# Altium integrated library Texas Instruments Power Management PWM Controller.IntLib: 1227 symbols (part 13 of 49)
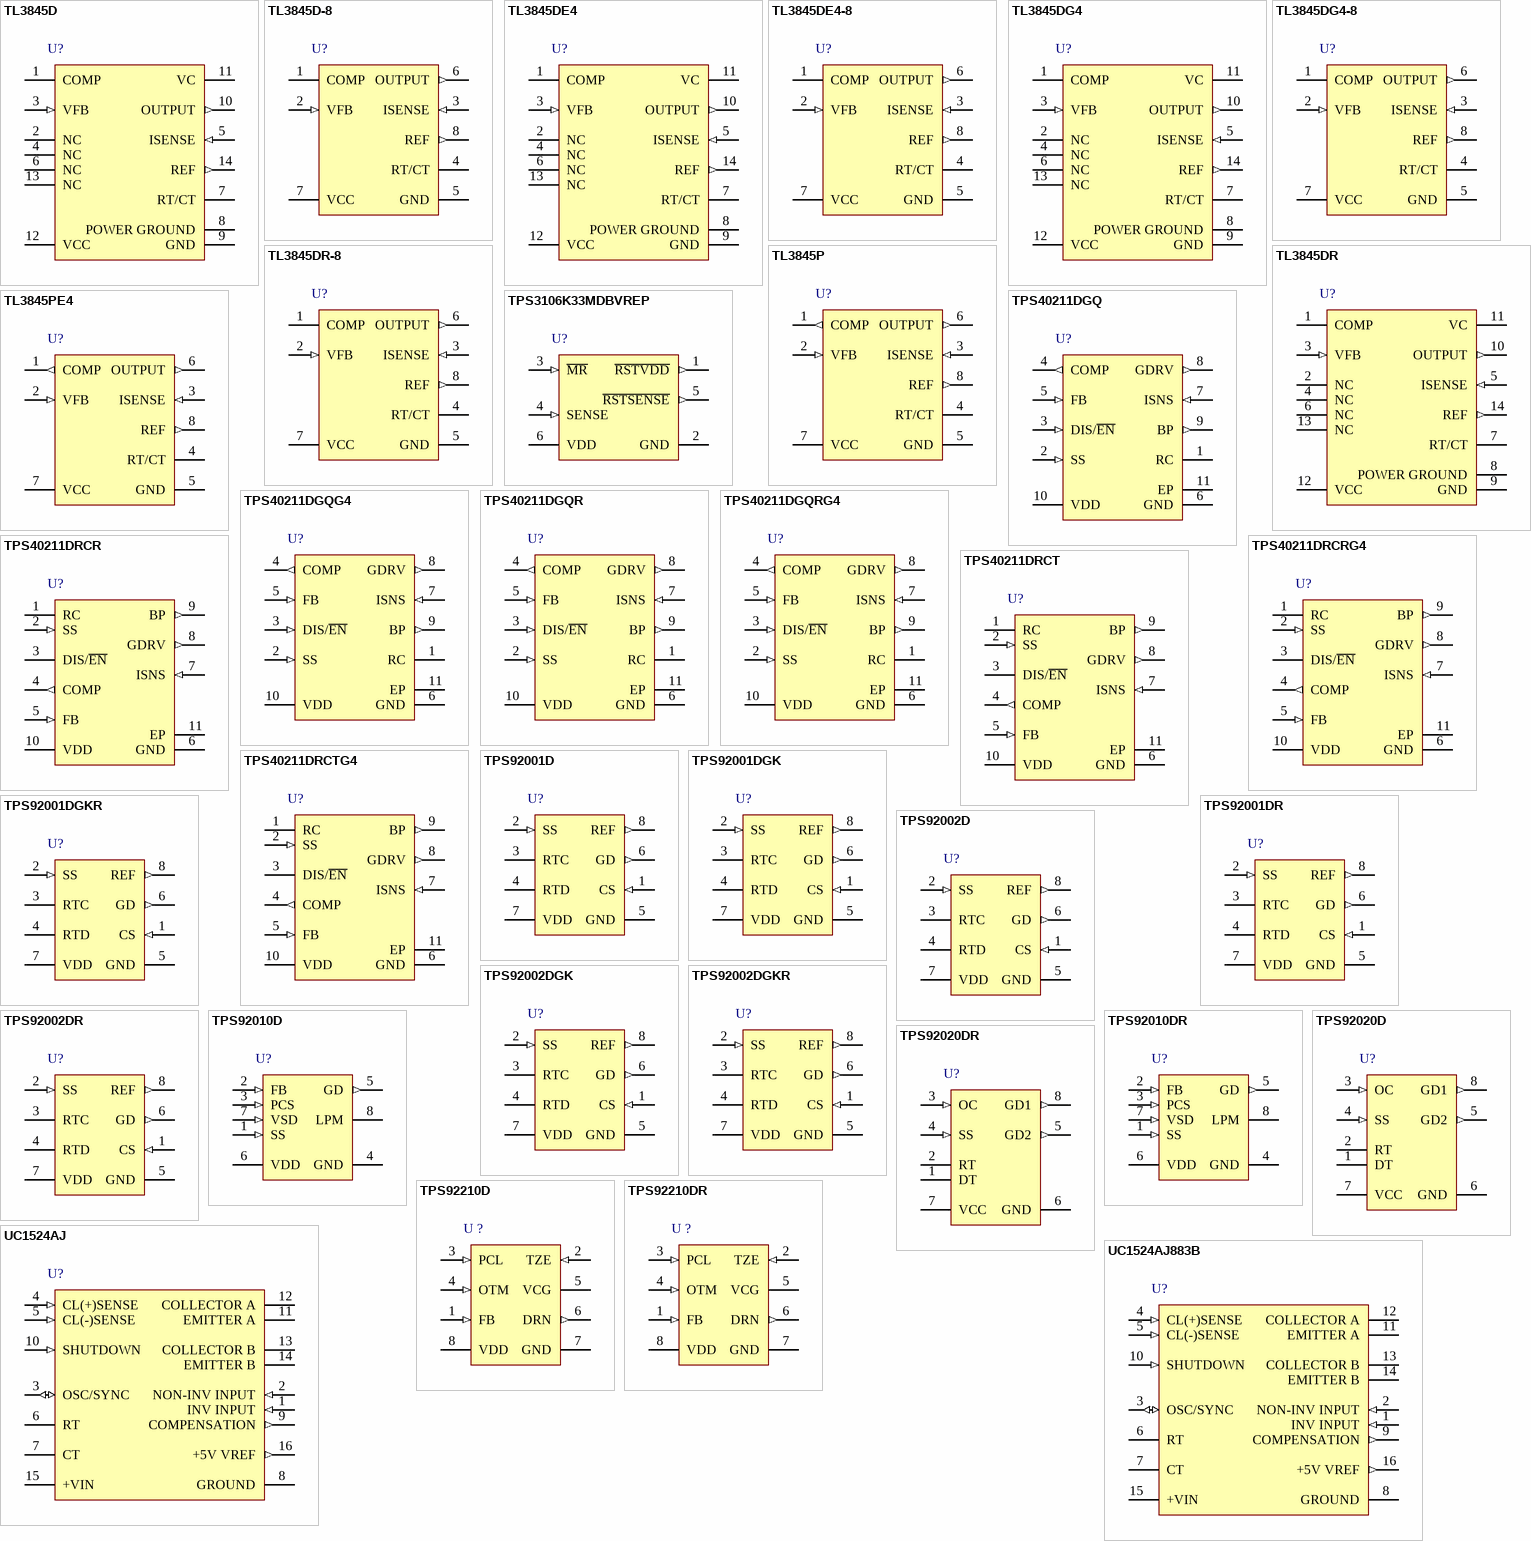
[diagram p55: symbols TL3845D to UC1524AJ883B]

## TPS92210DR
designator U ?
Natural PFC LED Lighting Driver Controller with Current Mode Control, -40 to +125 degC, 8-pin SOIC (D), Green (RoHS & no Sb/Br); PartNumber: TPS92210DR; Manufacturer: Texas Instruments; Frequency(Max)(kHz): 130; Rating: Catalog; SubFamily: PWM Controller; Topology: Flyback; DatasheetVersion: SLUS989A; PackageVersion: revM, Jun-2011; PackageReference: D8; PackageDescription: 8-Pin Plastic Small Outline Integrated Circuit, 4.9 x 3.9 mm, Pitch 1.27 mm Pitch; Supplier 1: Digi-Key; Supplier Part Number 1: 296-25782-2-ND; Supplier 2: Digi-Key; Supplier Part Number 2: 296-25782-1-ND; Supplier 3: Digi-Key; Supplier Part Number 3: 296-25782-6-ND; Supplier 4: Newark; Supplier Part Number 4: 69R0459; Supplier 5: Mouser; Supplier Part Number 5: 595-TPS92210DR; Control Method: Current; Eco-Plan: Green (RoHS & no Sb/Br); UVLO Thresholds On/Off(V): 10.2/8; Mounting Technology: Surface Mount; Code_JEDEC: MS-012AA; ComponentLink1Description: Datasheet; ComponentLink1URL: http://www.ti.com/general/docs/lit/getliterature.tsp?genericPartNumber=TPS92210&fileType=pdf
footprint D8_N (SOIC, 8-Leads, Body 4.9x3.9mm, Pitch 1.27mm, IPC Medium Density)
footprint D8_L (SOIC, 8-Leads, Body 4.9x3.9mm, Pitch 1.27mm, IPC High Density)
footprint D8_M (SOIC, 8-Leads, Body 4.9x3.9mm, Pitch 1.27mm, IPC Low Density)
pins: 1 FB (in) "The FB pin is regulated at 0.7 V and only detects current input (FB current,IFB) which commands the operating mode of TPS92210. For peak-current mode control, this pin is connected to the emitter of the feedback opto coupler.(See Datasheet)", 2 TZE (in) "A resistive divider between the primary-side auxiliary winding and this pin is used to detect when the transformer is demagnetized resulting in transformer zero energy. The ratio of the resistive divider at this pin can also (See Datasheet)", 3 PCL (in) "The PCL pin programs the peak primary inductor current that is reached each switching cycle. The primary current is sensed with the RDS(on) of the internal MOSFET and is programmed by setting a threshold by connecting a low (See Datasheet)", 4 OTM (in) "the OTM pin is internally regulated at 3 V and used to program the on-time of the cascode (flyback) switch by connecting a resistor (ROTM) from this pin to the quiet return of GND. The collector of the opto-coupler is (See Datasheet)", 5 VCG "The VCG pin provides the bias voltage for the gate of the cascode MOSFET. Place a 0.1-µF ceramic capacitorbetween VCG and GND, as close as possible to the high-voltage MOSFET. This pin also provides start-up biasthrough a (See Datasheet)", 6 DRN (out) "The DRN pin is the drain of the internal low voltage power MOSFET of the TPS92210 and carries the peak primary inductor current, IPEAK(pri). Connect this pin to the source of the external cascode power MOSFET. A schottky (See Datasheet)", 7 GND (power) "This GND pin is the current return terminal for both the analog and power signals in the TPS92210. This terminal carries the full drain current, IDRN, which is equal to the peak primary current, IPEAK(pri), in addition to (See Datasheet)", 8 VDD (power) "VDD is the bias supply pin for the TPS92210. It can be derived from an external source, or an auxiliary winding.Place a 0.1-μF ceramic capacitor between VDD and GND, as close to the device as possible. This pin also enables (See Datasheet)"

## UC1524AJ
designator U?
Advanced Regulating Pulse Width Modulators with Voltage control, 50 % Duty Cycle, -55 to +125 degC, 16-pin CDIP (J); PartNumber: UC1524AJ; Manufacturer: Texas Instruments; Duty Cycle(Max)(%): 50; Eco-Plan: TBD; Frequency(Max)(kHz): 450; Rating: Military; Regulated Outputs(#): 2; SubFamily: PWM Controller; Topology: Boost, Flyback, Forward, Full-Bridge, Half-Bridge, Push-Pull; DatasheetVersion: SLUS181B; PackageVersion: revF, Mar-2003; PackageReference: J16; PackageDescription: 16-Pin, Ceramic Dual In-Line Package, Row Spacing 7.62 mm, Pitch 2.54 mm; Control Method: Voltage; UVLO Thresholds On/Off(V): 7.5/7; Mounting Technology: Through Hole; ComponentLink1Description: Datasheet; ComponentLink1URL: http://www.ti.com/general/docs/lit/getliterature.tsp?genericPartNumber=UC1524A&fileType=pdf
footprint J16 (DIP, 16-Leads, Row Spacing 7.62mm, Pitch 2.54mm, Body 21.3x6.9mm)
pins: 1 INV INPUT (in), 2 NON-INV INPUT (in), 3 OSC/SYNC (io), 4 CL(+)SENSE (in), 5 CL(-)SENSE (in), 6 RT, 7 CT, 8 GROUND (power), 9 COMPENSATION (out), 10 SHUTDOWN (in), 11 EMITTER A, 12 COLLECTOR A, 13 COLLECTOR B, 14 EMITTER B, 15 +VIN (power), 16 +5V VREF (out)

## UC1524AJ883B
designator U?
Advanced Regulating Pulse Width Modulator with Voltage Control, 50 % Duty Cycle, -55 to 125 degC, 16-pin CDIP (J); PartNumber: UC1524AJ883B; Manufacturer: Texas Instruments; Duty Cycle(Max)(%): 50; Eco-Plan: TBD; Frequency(Max)(kHz): 450; Rating: Military; Regulated Outputs(#): 2; SubFamily: PWM Controller; Topology: Boost, Flyback, Forward, Full-Bridge, Half-Bridge, Push-Pull; DatasheetVersion: SLUS181B; PackageVersion: revF, Mar-2003; PackageReference: J16; PackageDescription: 16-Pin, Ceramic Dual In-Line Package, Row Spacing 7.62 mm, Pitch 2.54 mm; Control Method: Voltage; UVLO Thresholds On/Off(V): 7.5/7; Mounting Technology: Through Hole; ComponentLink1Description: Datasheet; ComponentLink1URL: http://www.ti.com/general/docs/lit/getliterature.tsp?genericPartNumber=UC1524A&fileType=pdf
footprint J16 (DIP, 16-Leads, Row Spacing 7.62mm, Pitch 2.54mm, Body 21.3x6.9mm)
pins: 1 INV INPUT (in), 2 NON-INV INPUT (in), 3 OSC/SYNC (io), 4 CL(+)SENSE (in), 5 CL(-)SENSE (in), 6 RT, 7 CT, 8 GROUND (power), 9 COMPENSATION (out), 10 SHUTDOWN (in), 11 EMITTER A, 12 COLLECTOR A, 13 COLLECTOR B, 14 EMITTER B, 15 +VIN (power), 16 +5V VREF (out)

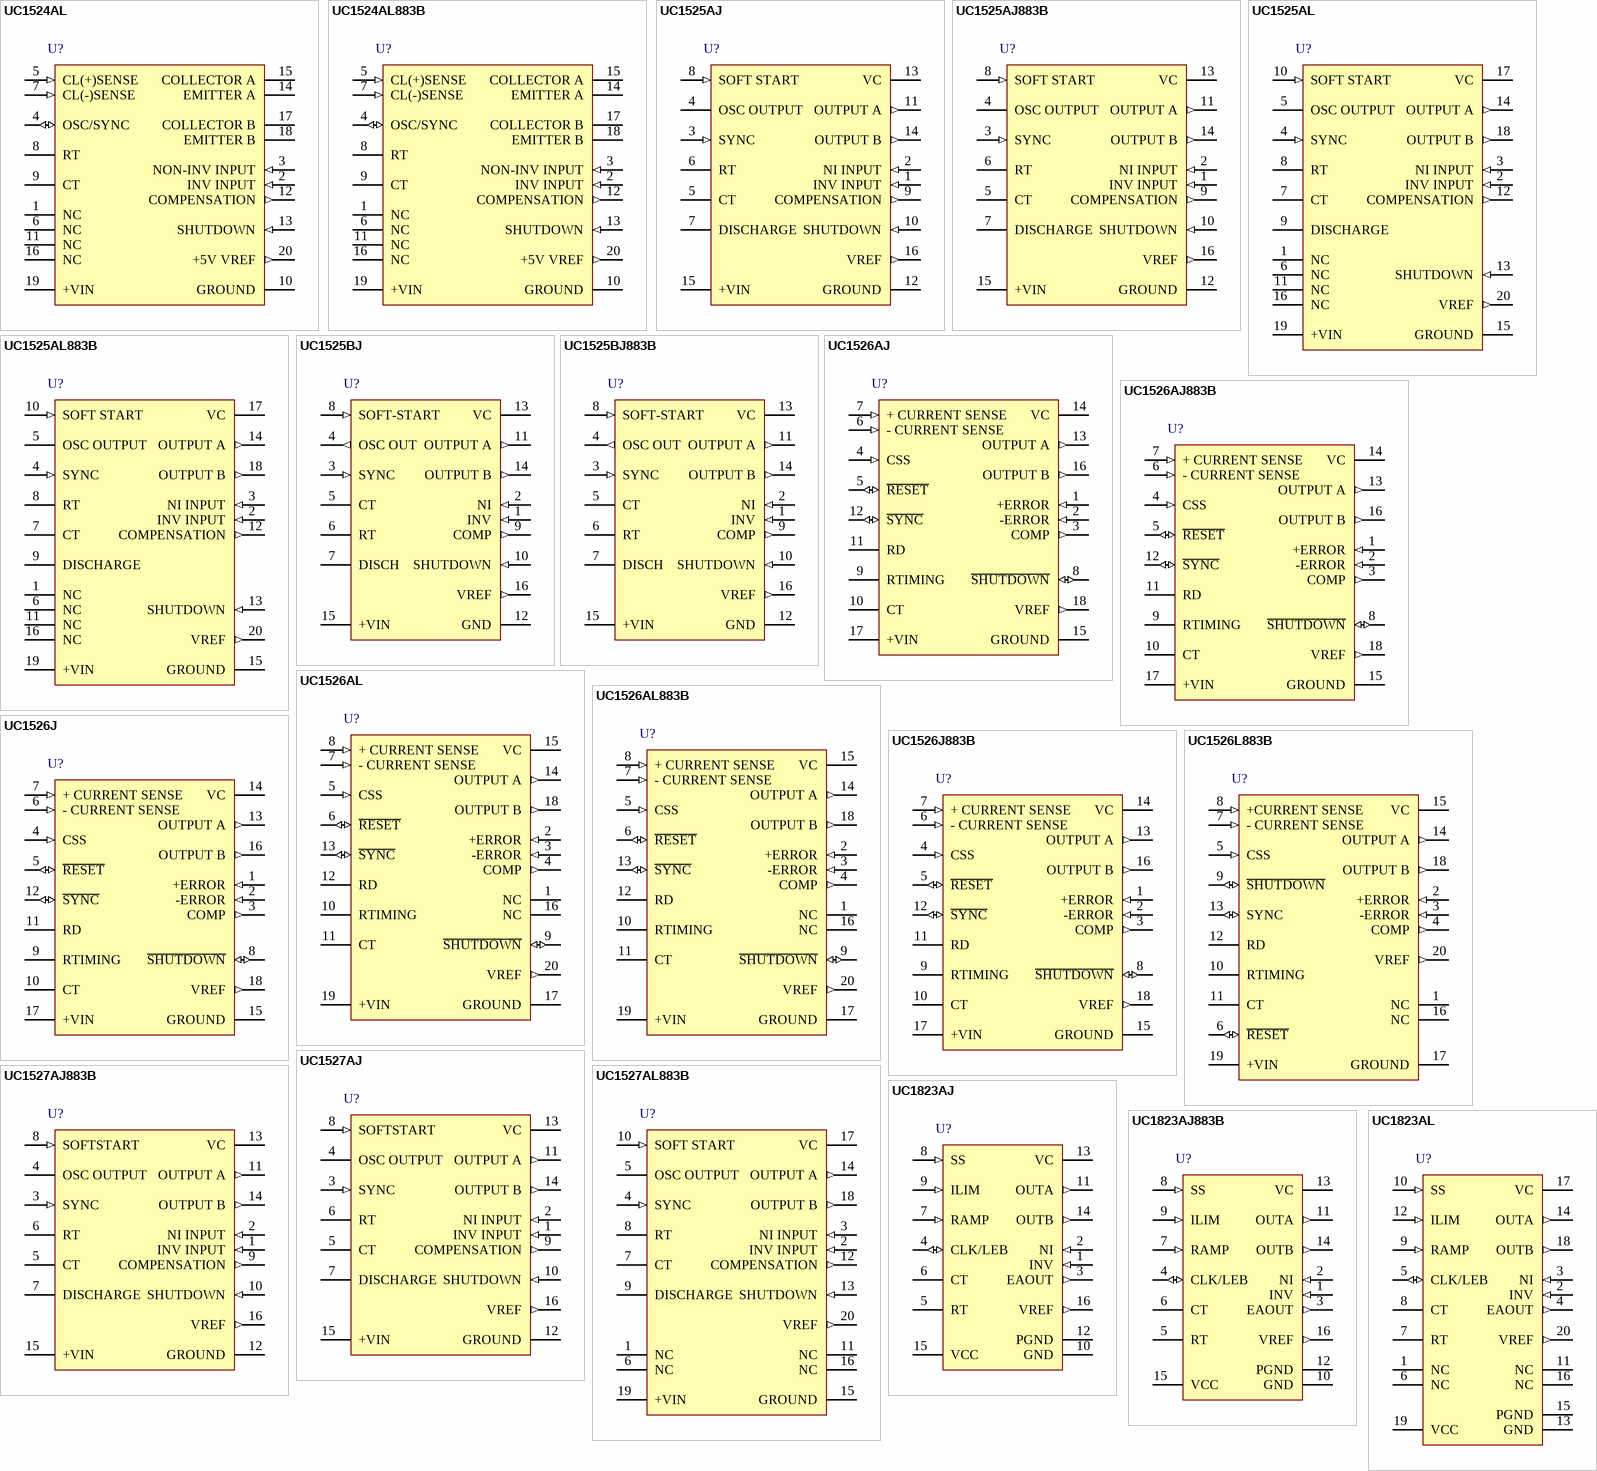
[diagram p13: symbols UC1524AL to UC1823AL]

## UC1524AL
designator U?
Advanced Regulating Pulse Width Modulator with Voltage Control, 50 % Duty Cycle, -55 to 125 degC, 20-pin LCCC (FK); PartNumber: UC1524AL; Manufacturer: Texas Instruments; Duty Cycle(Max)(%): 50; Eco-Plan: TBD; Frequency(Max)(kHz): 450; Rating: Military; Regulated Outputs(#): 2; SubFamily: PWM Controller; Topology: Boost, Flyback, Forward, Full-Bridge, Half-Bridge, Push-Pull; DatasheetVersion: SLUS181B; PackageVersion: revD, Jan-2011; PackageReference: FK20; PackageDescription: 20-Pin Leadless Ceramic Chip Carrier, 1.27 mm Pitch; Control Method: Voltage; UVLO Thresholds On/Off(V): 7.5/7; Mounting Technology: Surface Mount; Code_JEDEC: MS-004; ComponentLink1Description: Datasheet; ComponentLink1URL: http://www.ti.com/general/docs/lit/getliterature.tsp?genericPartNumber=UC1524A&fileType=pdf
footprint FK20_N (Leadless Chip Carrier, 20-Leads, Body 8.9x8.9mm, Pitch 1.27mm, IPC Medium Density)
footprint FK20_L (Leadless Chip Carrier, 20-Leads, Body 8.9x8.9mm, Pitch 1.27mm, IPC High Density)
footprint FK20_M (Leadless Chip Carrier, 20-Leads, Body 8.9x8.9mm, Pitch 1.27mm, IPC Low Density)
pins: 1 NC, 2 INV INPUT (in), 3 NON-INV INPUT (in), 4 OSC/SYNC (io), 5 CL(+)SENSE (in), 6 NC, 7 CL(-)SENSE (in), 8 RT, 9 CT, 10 GROUND (power), 11 NC, 12 COMPENSATION (out), 13 SHUTDOWN (in), 14 EMITTER A, 15 COLLECTOR A, 16 NC, 17 COLLECTOR B, 18 EMITTER B, 19 +VIN (power), 20 +5V VREF (out)

## UC1524AL883B
designator U?
Advanced Regulating Pulse Width Modulator with Voltage Control, 50 % Duty Cycle, -55 to +125 degC, 20-pin LCCC (FK); PartNumber: UC1524AL883B; Manufacturer: Texas Instruments; Duty Cycle(Max)(%): 50; Eco-Plan: TBD; Frequency(Max)(kHz): 450; Rating: Military; Regulated Outputs(#): 2; SubFamily: PWM Controller; Topology: Boost, Flyback, Forward, Full-Bridge, Half-Bridge, Push-Pull; DatasheetVersion: SLUS181B; PackageVersion: revD, Jan-2011; PackageReference: FK20; PackageDescription: 20-Pin Leadless Ceramic Chip Carrier, 1.27 mm Pitch; Control Method: Voltage; UVLO Thresholds On/Off(V): 7.5/7; Mounting Technology: Surface Mount; Code_JEDEC: MS-004; ComponentLink1Description: Datasheet; ComponentLink1URL: http://www.ti.com/general/docs/lit/getliterature.tsp?genericPartNumber=UC1524A&fileType=pdf
footprint FK20_N (Leadless Chip Carrier, 20-Leads, Body 8.9x8.9mm, Pitch 1.27mm, IPC Medium Density)
footprint FK20_L (Leadless Chip Carrier, 20-Leads, Body 8.9x8.9mm, Pitch 1.27mm, IPC High Density)
footprint FK20_M (Leadless Chip Carrier, 20-Leads, Body 8.9x8.9mm, Pitch 1.27mm, IPC Low Density)
pins: 1 NC, 2 INV INPUT (in), 3 NON-INV INPUT (in), 4 OSC/SYNC (io), 5 CL(+)SENSE (in), 6 NC, 7 CL(-)SENSE (in), 8 RT, 9 CT, 10 GROUND (power), 11 NC, 12 COMPENSATION (out), 13 SHUTDOWN (in), 14 EMITTER A, 15 COLLECTOR A, 16 NC, 17 COLLECTOR B, 18 EMITTER B, 19 +VIN (power), 20 +5V VREF (out)

## UC1525AJ
designator U?
Regulating Pulse Width Modulator with Voltage Control, 50 % Duty Cycle, -55 to +125 degC, 16-pin CDIP (J); PartNumber: UC1525AJ; Manufacturer: Texas Instruments; Duty Cycle(Max)(%): 50; Eco-Plan: TBD; Frequency(Max)(kHz): 450; Rating: Military; Regulated Outputs(#): 2; SubFamily: PWM Controller; Topology: Boost, Flyback, Forward, Full-Bridge, Half-Bridge, Push-Pull; DatasheetVersion: SLUS191C; PackageVersion: revF, Mar-2003; PackageReference: J16; PackageDescription: 16-Pin, Ceramic Dual In-Line Package, Row Spacing 7.62 mm, Pitch 2.54 mm; Control Method: Voltage; UVLO Thresholds On/Off(V): 7/6.8; Mounting Technology: Through Hole; ComponentLink1Description: Datasheet; ComponentLink1URL: http://www.ti.com/general/docs/lit/getliterature.tsp?genericPartNumber=UC1525A&fileType=pdf
footprint J16 (DIP, 16-Leads, Row Spacing 7.62mm, Pitch 2.54mm, Body 21.3x6.9mm)
pins: 1 INV INPUT (in), 2 NI INPUT (in), 3 SYNC (in), 4 OSC OUTPUT, 5 CT, 6 RT, 7 DISCHARGE (oc), 8 SOFT START (in), 9 COMPENSATION (out), 10 SHUTDOWN (in), 11 OUTPUT A (out), 12 GROUND (power), 13 VC (power), 14 OUTPUT B (out), 15 +VIN (power), 16 VREF (out)

## UC1525AJ883B
designator U?
Regulating Pulse Width Modulator with Voltage Control, 50 % Duty Cycle, -55 to +125 degC, 16-pin CDIP (J); PartNumber: UC1525AJ883B; Manufacturer: Texas Instruments; Duty Cycle(Max)(%): 50; Eco-Plan: TBD; Frequency(Max)(kHz): 450; Rating: Military; Regulated Outputs(#): 2; SubFamily: PWM Controller; Topology: Boost, Flyback, Forward, Full-Bridge, Half-Bridge, Push-Pull; DatasheetVersion: SLUS191C; PackageVersion: revF, Mar-2003; PackageReference: J16; PackageDescription: 16-Pin, Ceramic Dual In-Line Package, Row Spacing 7.62 mm, Pitch 2.54 mm; Control Method: Voltage; UVLO Thresholds On/Off(V): 7/6.8; Mounting Technology: Through Hole; ComponentLink1Description: Datasheet; ComponentLink1URL: http://www.ti.com/general/docs/lit/getliterature.tsp?genericPartNumber=UC1525A&fileType=pdf
footprint J16 (DIP, 16-Leads, Row Spacing 7.62mm, Pitch 2.54mm, Body 21.3x6.9mm)
pins: 1 INV INPUT (in), 2 NI INPUT (in), 3 SYNC (in), 4 OSC OUTPUT, 5 CT, 6 RT, 7 DISCHARGE (oc), 8 SOFT START (in), 9 COMPENSATION (out), 10 SHUTDOWN (in), 11 OUTPUT A (out), 12 GROUND (power), 13 VC (power), 14 OUTPUT B (out), 15 +VIN (power), 16 VREF (out)

## UC1525AL
designator U?
Regulating Pulse Width Modulator with Voltage Control, 50 % Duty Cycle, -55 to +125 degC, 20-pin LCCC (FK); PartNumber: UC1525AL; Manufacturer: Texas Instruments; Duty Cycle(Max)(%): 50; Eco-Plan: TBD; Frequency(Max)(kHz): 450; Rating: Military; Regulated Outputs(#): 2; SubFamily: PWM Controller; Topology: Boost, Flyback, Forward, Full-Bridge, Half-Bridge, Push-Pull; DatasheetVersion: SLUS191C; PackageVersion: revD, Jan-2011; PackageReference: FK20; PackageDescription: 20-Pin Leadless Ceramic Chip Carrier, 1.27 mm Pitch; Control Method: Voltage; UVLO Thresholds On/Off(V): 7/6.8; Mounting Technology: Surface Mount; Code_JEDEC: MS-004; ComponentLink1Description: Datasheet; ComponentLink1URL: http://www.ti.com/general/docs/lit/getliterature.tsp?genericPartNumber=UC1525A&fileType=pdf
footprint FK20_N (Leadless Chip Carrier, 20-Leads, Body 8.9x8.9mm, Pitch 1.27mm, IPC Medium Density)
footprint FK20_L (Leadless Chip Carrier, 20-Leads, Body 8.9x8.9mm, Pitch 1.27mm, IPC High Density)
footprint FK20_M (Leadless Chip Carrier, 20-Leads, Body 8.9x8.9mm, Pitch 1.27mm, IPC Low Density)
pins: 1 NC, 2 INV INPUT (in), 3 NI INPUT (in), 4 SYNC (in), 5 OSC OUTPUT, 6 NC, 7 CT, 8 RT, 9 DISCHARGE (oc), 10 SOFT START (in), 11 NC, 12 COMPENSATION (out), 13 SHUTDOWN (in), 14 OUTPUT A (out), 15 GROUND (power), 16 NC, 17 VC (power), 18 OUTPUT B (out), 19 +VIN (power), 20 VREF (out)

## UC1525AL883B
designator U?
Regulating Pulse Width Modulator with Voltage Control, 50 % Duty Cycle, -55 to +125 degC, 20-pin LCCC (FK); PartNumber: UC1525AL883B; Manufacturer: Texas Instruments; Duty Cycle(Max)(%): 50; Eco-Plan: TBD; Frequency(Max)(kHz): 450; Rating: Military; Regulated Outputs(#): 2; SubFamily: PWM Controller; Topology: Boost, Flyback, Forward, Full-Bridge, Half-Bridge, Push-Pull; DatasheetVersion: SLUS191C; PackageVersion: revD, Jan-2011; PackageReference: FK20; PackageDescription: 20-Pin Leadless Ceramic Chip Carrier, 1.27 mm Pitch; Control Method: Voltage; UVLO Thresholds On/Off(V): 7/6.8; Mounting Technology: Surface Mount; Code_JEDEC: MS-004; ComponentLink1Description: Datasheet; ComponentLink1URL: http://www.ti.com/general/docs/lit/getliterature.tsp?genericPartNumber=UC1525A&fileType=pdf
footprint FK20_N (Leadless Chip Carrier, 20-Leads, Body 8.9x8.9mm, Pitch 1.27mm, IPC Medium Density)
footprint FK20_L (Leadless Chip Carrier, 20-Leads, Body 8.9x8.9mm, Pitch 1.27mm, IPC High Density)
footprint FK20_M (Leadless Chip Carrier, 20-Leads, Body 8.9x8.9mm, Pitch 1.27mm, IPC Low Density)
pins: 1 NC, 2 INV INPUT (in), 3 NI INPUT (in), 4 SYNC (in), 5 OSC OUTPUT, 6 NC, 7 CT, 8 RT, 9 DISCHARGE (oc), 10 SOFT START (in), 11 NC, 12 COMPENSATION (out), 13 SHUTDOWN (in), 14 OUTPUT A (out), 15 GROUND (power), 16 NC, 17 VC (power), 18 OUTPUT B (out), 19 +VIN (power), 20 VREF (out)

## UC1525BJ
designator U?
Regulating Pulse Width Modulator with Voltage Control, 50 % Duty Cycle, -55 to +125 degC, 16-pin CDIP (J); PartNumber: UC1525BJ; Manufacturer: Texas Instruments; Duty Cycle(Max)(%): 50; Eco-Plan: TBD; Frequency(Max)(kHz): 450; Rating: Military; Regulated Outputs(#): 2; SubFamily: PWM Controller; Topology: Boost, Flyback, Forward, Full-Bridge, Half-Bridge, Push-Pull; DatasheetVersion: SLUS376; PackageVersion: revF, Mar-2003; PackageReference: J16; PackageDescription: 16-Pin, Ceramic Dual In-Line Package, Row Spacing 7.62 mm, Pitch 2.54 mm; Control Method: Voltage; UVLO Thresholds On/Off(V): 7/6.8; Mounting Technology: Through Hole; ComponentLink1Description: Datasheet; ComponentLink1URL: http://www.ti.com/general/docs/lit/getliterature.tsp?genericPartNumber=UC1525B&fileType=pdf
footprint J16 (DIP, 16-Leads, Row Spacing 7.62mm, Pitch 2.54mm, Body 21.3x6.9mm)
pins: 1 INV (in), 2 NI (in), 3 SYNC (in), 4 OSC OUT (out), 5 CT, 6 RT, 7 DISCH (oc), 8 SOFT-START (in), 9 COMP (out), 10 SHUTDOWN (in), 11 OUTPUT A (out), 12 GND (power), 13 VC (power), 14 OUTPUT B (out), 15 +VIN (power), 16 VREF (out)

## UC1525BJ883B
designator U?
Regulating Pulse Width Modulator with Voltage Control, 50 % Duty Cycle, -55 to +125 degC, 16-pin CDIP (J); PartNumber: UC1525BJ883B; Manufacturer: Texas Instruments; Duty Cycle(Max)(%): 50; Eco-Plan: TBD; Frequency(Max)(kHz): 450; Rating: Military; Regulated Outputs(#): 2; SubFamily: PWM Controller; Topology: Boost, Flyback, Forward, Full-Bridge, Half-Bridge, Push-Pull; DatasheetVersion: SLUS376; PackageVersion: revF, Mar-2003; PackageReference: J16; PackageDescription: 16-Pin, Ceramic Dual In-Line Package, Row Spacing 7.62 mm, Pitch 2.54 mm; Control Method: Voltage; UVLO Thresholds On/Off(V): 7/6.8; Mounting Technology: Through Hole; ComponentLink1Description: Datasheet; ComponentLink1URL: http://www.ti.com/general/docs/lit/getliterature.tsp?genericPartNumber=UC1525B&fileType=pdf
footprint J16 (DIP, 16-Leads, Row Spacing 7.62mm, Pitch 2.54mm, Body 21.3x6.9mm)
pins: 1 INV (in), 2 NI (in), 3 SYNC (in), 4 OSC OUT (out), 5 CT, 6 RT, 7 DISCH (oc), 8 SOFT-START (in), 9 COMP (out), 10 SHUTDOWN (in), 11 OUTPUT A (out), 12 GND (power), 13 VC (power), 14 OUTPUT B (out), 15 +VIN (power), 16 VREF (out)

## UC1526AJ
designator U?
Regulating Pulse Width Modulator with Voltage Control, 50 % Duty Cycle, -55 to +125 degC, 18-pin CDIP (J); PartNumber: UC1526AJ; Manufacturer: Texas Instruments; Duty Cycle(Max)(%): 50; Eco-Plan: TBD; Frequency(Max)(kHz): 450; Rating: Military; Regulated Outputs(#): 2; SubFamily: PWM Controller; Topology: Boost, Flyback, Forward, Full-Bridge, Half-Bridge, Push-Pull; DatasheetVersion: SLUS187; PackageVersion: revF, Mar-2003; PackageReference: J18; PackageDescription: 18-Pin, Ceramic Dual In-Line Package, Row Spacing 7.62 mm, Pitch 2.54 mm; Control Method: Voltage; UVLO Thresholds On/Off(V): 7/6.8; Mounting Technology: Through Hole; ComponentLink1Description: Datasheet; ComponentLink1URL: http://www.ti.com/general/docs/lit/getliterature.tsp?genericPartNumber=UC1526A&fileType=pdf
footprint J18 (DIP, 18-Leads, Row Spacing 7.62mm, Pitch 2.54mm, Body 24.1x6.7mm)
pins: 1 +ERROR (in), 2 -ERROR (in), 3 COMP (out), 4 CSS (in), 5 ~{RESET} (io), 6 - CURRENT SENSE (in), 7 + CURRENT SENSE (in), 8 ~{SHUTDOWN} (io), 9 RTIMING, 10 CT, 11 RD, 12 ~{SYNC} (io), 13 OUTPUT A (out), 14 VC (power), 15 GROUND (power), 16 OUTPUT B (out), 17 +VIN (power), 18 VREF (out)

## UC1526AJ883B
designator U?
Regulating Pulse Width Modulator with Voltage Control, 50 % Duty Cycle, -55 to +125 degC, 18-pin CDIP (J); PartNumber: UC1526AJ883B; Manufacturer: Texas Instruments; Duty Cycle(Max)(%): 50; Eco-Plan: TBD; Frequency(Max)(kHz): 450; Rating: Military; Regulated Outputs(#): 2; SubFamily: PWM Controller; Topology: Boost, Flyback, Forward, Full-Bridge, Half-Bridge, Push-Pull; DatasheetVersion: SLUS187; PackageVersion: revF, Mar-2003; PackageReference: J18; PackageDescription: 18-Pin, Ceramic Dual In-Line Package, Row Spacing 7.62 mm, Pitch 2.54 mm; Control Method: Voltage; UVLO Thresholds On/Off(V): 7/6.8; Mounting Technology: Through Hole; ComponentLink1Description: Datasheet; ComponentLink1URL: http://www.ti.com/general/docs/lit/getliterature.tsp?genericPartNumber=UC1526A&fileType=pdf
footprint J18 (DIP, 18-Leads, Row Spacing 7.62mm, Pitch 2.54mm, Body 24.1x6.7mm)
pins: 1 +ERROR (in), 2 -ERROR (in), 3 COMP (out), 4 CSS (in), 5 ~{RESET} (io), 6 - CURRENT SENSE (in), 7 + CURRENT SENSE (in), 8 ~{SHUTDOWN} (io), 9 RTIMING, 10 CT, 11 RD, 12 ~{SYNC} (io), 13 OUTPUT A (out), 14 VC (power), 15 GROUND (power), 16 OUTPUT B (out), 17 +VIN (power), 18 VREF (out)

## UC1526AL
designator U?
Regulating Pulse Width Modulator with Voltage Control, 50 % Duty Cycle, -55 to +125 degC, 20-pin LCCC (FK); PartNumber: UC1526AL; Manufacturer: Texas Instruments; Duty Cycle(Max)(%): 50; Eco-Plan: TBD; Frequency(Max)(kHz): 450; Rating: Military; Regulated Outputs(#): 2; SubFamily: PWM Controller; Topology: Boost, Flyback, Forward, Full-Bridge, Half-Bridge, Push-Pull; DatasheetVersion: SLUS187; PackageVersion: revD, Jan-2011; PackageReference: FK20; PackageDescription: 20-Pin Leadless Ceramic Chip Carrier, 1.27 mm Pitch; Control Method: Voltage; UVLO Thresholds On/Off(V): 7/6.8; Mounting Technology: Surface Mount; Code_JEDEC: MS-004; ComponentLink1Description: Datasheet; ComponentLink1URL: http://www.ti.com/general/docs/lit/getliterature.tsp?genericPartNumber=UC1526A&fileType=pdf
footprint FK20_N (Leadless Chip Carrier, 20-Leads, Body 8.9x8.9mm, Pitch 1.27mm, IPC Medium Density)
footprint FK20_L (Leadless Chip Carrier, 20-Leads, Body 8.9x8.9mm, Pitch 1.27mm, IPC High Density)
footprint FK20_M (Leadless Chip Carrier, 20-Leads, Body 8.9x8.9mm, Pitch 1.27mm, IPC Low Density)
pins: 1 NC, 2 +ERROR (in), 3 -ERROR (in), 4 COMP (out), 5 CSS (in), 6 ~{RESET} (io), 7 - CURRENT SENSE (in), 8 + CURRENT SENSE (in), 9 ~{SHUTDOWN} (io), 10 RTIMING, 11 CT, 12 RD, 13 ~{SYNC} (io), 14 OUTPUT A (out), 15 VC (power), 16 NC, 17 GROUND (power), 18 OUTPUT B (out), 19 +VIN (power), 20 VREF (out)

## UC1526AL883B
designator U?
Regulating Pulse Width Modulator with Voltage Control, 50 % Duty Cycle, -55 to +125 degC, 20-pin LCCC (FK); PartNumber: UC1526AL883B; Manufacturer: Texas Instruments; Duty Cycle(Max)(%): 50; Eco-Plan: TBD; Frequency(Max)(kHz): 450; Rating: Military; Regulated Outputs(#): 2; SubFamily: PWM Controller; Topology: Boost, Flyback, Forward, Full-Bridge, Half-Bridge, Push-Pull; DatasheetVersion: SLUS187; PackageVersion: revD, Jan-2011; PackageReference: FK20; PackageDescription: 20-Pin Leadless Ceramic Chip Carrier, 1.27 mm Pitch; Control Method: Voltage; UVLO Thresholds On/Off(V): 7/6.8; Mounting Technology: Surface Mount; Code_JEDEC: MS-004; ComponentLink1Description: Datasheet; ComponentLink1URL: http://www.ti.com/general/docs/lit/getliterature.tsp?genericPartNumber=UC1526A&fileType=pdf
footprint FK20_N (Leadless Chip Carrier, 20-Leads, Body 8.9x8.9mm, Pitch 1.27mm, IPC Medium Density)
footprint FK20_L (Leadless Chip Carrier, 20-Leads, Body 8.9x8.9mm, Pitch 1.27mm, IPC High Density)
footprint FK20_M (Leadless Chip Carrier, 20-Leads, Body 8.9x8.9mm, Pitch 1.27mm, IPC Low Density)
pins: 1 NC, 2 +ERROR (in), 3 -ERROR (in), 4 COMP (out), 5 CSS (in), 6 ~{RESET} (io), 7 - CURRENT SENSE (in), 8 + CURRENT SENSE (in), 9 ~{SHUTDOWN} (io), 10 RTIMING, 11 CT, 12 RD, 13 ~{SYNC} (io), 14 OUTPUT A (out), 15 VC (power), 16 NC, 17 GROUND (power), 18 OUTPUT B (out), 19 +VIN (power), 20 VREF (out)

## UC1526J
designator U?
Regulating Pulse Width Modulator with Voltage Control, 50 % Duty Cycle, -55 to +125 degC, 18-pin CDIP (J); PartNumber: UC1526J; Manufacturer: Texas Instruments; Duty Cycle(Max)(%): 50; Eco-Plan: TBD; Frequency(Max)(kHz): 450; Rating: Military; Regulated Outputs(#): 2; SubFamily: PWM Controller; Topology: Boost, Flyback, Forward, Full-Bridge, Half-Bridge, Push-Pull; DatasheetVersion: SLUS185; PackageVersion: revF, Mar-2003; PackageReference: J18; PackageDescription: 18-Pin, Ceramic Dual In-Line Package, Row Spacing 7.62 mm, Pitch 2.54 mm; Control Method: Voltage; UVLO Thresholds On/Off(V): 7/6.8; Mounting Technology: Through Hole; ComponentLink1Description: Datasheet; ComponentLink1URL: http://www.ti.com/general/docs/lit/getliterature.tsp?genericPartNumber=UC1526&fileType=pdf
footprint J18 (DIP, 18-Leads, Row Spacing 7.62mm, Pitch 2.54mm, Body 24.1x6.7mm)
pins: 1 +ERROR (in), 2 -ERROR (in), 3 COMP (out), 4 CSS (in), 5 ~{RESET} (io), 6 - CURRENT SENSE (in), 7 + CURRENT SENSE (in), 8 ~{SHUTDOWN} (io), 9 RTIMING, 10 CT, 11 RD, 12 ~{SYNC} (io), 13 OUTPUT A (out), 14 VC (power), 15 GROUND (power), 16 OUTPUT B (out), 17 +VIN (power), 18 VREF (out)

## UC1526J883B
designator U?
Regulating Pulse Width Modulator with Voltage Control, 50 % Duty Cycle, -55 to +125 degC, 18-pin CDIP (J); PartNumber: UC1526J883B; Manufacturer: Texas Instruments; Duty Cycle(Max)(%): 50; Eco-Plan: TBD; Frequency(Max)(kHz): 450; Rating: Military; Regulated Outputs(#): 2; SubFamily: PWM Controller; Topology: Boost, Flyback, Forward, Full-Bridge, Half-Bridge, Push-Pull; DatasheetVersion: SLUS185; PackageVersion: revF, Mar-2003; PackageReference: J18; PackageDescription: 18-Pin, Ceramic Dual In-Line Package, Row Spacing 7.62 mm, Pitch 2.54 mm; Control Method: Voltage; UVLO Thresholds On/Off(V): 7/6.8; Mounting Technology: Through Hole; ComponentLink1Description: Datasheet; ComponentLink1URL: http://www.ti.com/general/docs/lit/getliterature.tsp?genericPartNumber=UC1526&fileType=pdf
footprint J18 (DIP, 18-Leads, Row Spacing 7.62mm, Pitch 2.54mm, Body 24.1x6.7mm)
pins: 1 +ERROR (in), 2 -ERROR (in), 3 COMP (out), 4 CSS (in), 5 ~{RESET} (io), 6 - CURRENT SENSE (in), 7 + CURRENT SENSE (in), 8 ~{SHUTDOWN} (io), 9 RTIMING, 10 CT, 11 RD, 12 ~{SYNC} (io), 13 OUTPUT A (out), 14 VC (power), 15 GROUND (power), 16 OUTPUT B (out), 17 +VIN (power), 18 VREF (out)

## UC1526L883B
designator U?
Regulating Pulse Width Modulator with Voltage Control, 50 % Duty Cycle, -55 to +125 degC, 20-pin LCCC (FK); PartNumber: UC1526L883B; Manufacturer: Texas Instruments; Duty Cycle(Max)(%): 50; Eco-Plan: TBD; Frequency(Max)(kHz): 450; Rating: Military; Regulated Outputs(#): 2; SubFamily: PWM Controller; Topology: Boost, Flyback, Forward, Full-Bridge, Half-Bridge, Push-Pull; DatasheetVersion: SLUS185; PackageVersion: revD, Jan-2011; PackageReference: FK20; PackageDescription: 20-Pin Leadless Ceramic Chip Carrier, 1.27 mm Pitch; Control Method: Voltage; UVLO Thresholds On/Off(V): 7/6.8; Mounting Technology: Surface Mount; Code_JEDEC: MS-004; ComponentLink1Description: Datasheet; ComponentLink1URL: http://www.ti.com/general/docs/lit/getliterature.tsp?genericPartNumber=UC1526&fileType=pdf
footprint FK20_N (Leadless Chip Carrier, 20-Leads, Body 8.9x8.9mm, Pitch 1.27mm, IPC Medium Density)
footprint FK20_L (Leadless Chip Carrier, 20-Leads, Body 8.9x8.9mm, Pitch 1.27mm, IPC High Density)
footprint FK20_M (Leadless Chip Carrier, 20-Leads, Body 8.9x8.9mm, Pitch 1.27mm, IPC Low Density)
pins: 1 NC, 2 +ERROR (in), 3 -ERROR (in), 4 COMP (out), 5 CSS (in), 6 ~{RESET} (io), 7 - CURRENT SENSE (in), 8 +CURRENT SENSE (in), 9 ~{SHUTDOWN} (io), 10 RTIMING, 11 CT, 12 RD, 13 SYNC (io), 14 OUTPUT A (out), 15 VC (power), 16 NC, 17 GROUND (power), 18 OUTPUT B (out), 19 +VIN (power), 20 VREF (out)

## UC1527AJ
designator U?
Regulating Pulse Width Modulator with Voltage Control, 50 % Duty Cycle, -55 to +125 degC, 16-pin CDIP (J); PartNumber: UC1527AJ; Manufacturer: Texas Instruments; Duty Cycle(Max)(%): 50; Eco-Plan: TBD; Frequency(Max)(kHz): 450; Rating: Military; Regulated Outputs(#): 2; SubFamily: PWM Controller; Topology: Boost, Flyback, Forward, Full-Bridge, Half-Bridge, Push-Pull; DatasheetVersion: SLUS191C; PackageVersion: revF, Mar-2003; PackageReference: J16; PackageDescription: 16-Pin, Ceramic Dual In-Line Package, Row Spacing 7.62 mm, Pitch 2.54 mm; Control Method: Voltage; UVLO Thresholds On/Off(V): 7/6.8; Mounting Technology: Through Hole; ComponentLink1Description: Datasheet; ComponentLink1URL: http://www.ti.com/general/docs/lit/getliterature.tsp?genericPartNumber=UC1527A&fileType=pdf
footprint J16 (DIP, 16-Leads, Row Spacing 7.62mm, Pitch 2.54mm, Body 21.3x6.9mm)
pins: 1 INV INPUT (in), 2 NI INPUT (in), 3 SYNC (in), 4 OSC OUTPUT, 5 CT, 6 RT, 7 DISCHARGE (oc), 8 SOFTSTART (in), 9 COMPENSATION (out), 10 SHUTDOWN (in), 11 OUTPUT A (out), 12 GROUND (power), 13 VC (power), 14 OUTPUT B (out), 15 +VIN (power), 16 VREF (out)

## UC1527AJ883B
designator U?
Regulating Pulse Width Modulator with Voltage Control, 50 % Duty Cycle, -55 to +125 degC, 16-pin CDIP (J); PartNumber: UC1527AJ883B; Manufacturer: Texas Instruments; Duty Cycle(Max)(%): 50; Eco-Plan: TBD; Frequency(Max)(kHz): 450; Rating: Military; Regulated Outputs(#): 2; SubFamily: PWM Controller; Topology: Boost, Flyback, Forward, Full-Bridge, Half-Bridge, Push-Pull; DatasheetVersion: SLUS191C; PackageVersion: revF, Mar-2003; PackageReference: J16; PackageDescription: 16-Pin, Ceramic Dual In-Line Package, Row Spacing 7.62 mm, Pitch 2.54 mm; Control Method: Voltage; UVLO Thresholds On/Off(V): 7/6.8; Mounting Technology: Through Hole; ComponentLink1Description: Datasheet; ComponentLink1URL: http://www.ti.com/general/docs/lit/getliterature.tsp?genericPartNumber=UC1527A&fileType=pdf
footprint J16 (DIP, 16-Leads, Row Spacing 7.62mm, Pitch 2.54mm, Body 21.3x6.9mm)
pins: 1 INV INPUT (in), 2 NI INPUT (in), 3 SYNC (in), 4 OSC OUTPUT, 5 CT, 6 RT, 7 DISCHARGE (oc), 8 SOFTSTART (in), 9 COMPENSATION (out), 10 SHUTDOWN (in), 11 OUTPUT A (out), 12 GROUND (power), 13 VC (power), 14 OUTPUT B (out), 15 +VIN (power), 16 VREF (out)

## UC1527AL883B
designator U?
Regulating Pulse Width Modulator with Voltage Control, 50 % Duty Cycle, -55 to +125 degC, 20-pin LCCC (FK); PartNumber: UC1527AL883B; Manufacturer: Texas Instruments; Duty Cycle(Max)(%): 50; Eco-Plan: TBD; Frequency(Max)(kHz): 450; Rating: Military; Regulated Outputs(#): 2; SubFamily: PWM Controller; Topology: Boost, Flyback, Forward, Full-Bridge, Half-Bridge, Push-Pull; DatasheetVersion: SLUS191C; PackageVersion: revD, Jan-2011; PackageReference: FK20; PackageDescription: 20-Pin Leadless Ceramic Chip Carrier, 1.27 mm Pitch; Control Method: Voltage; UVLO Thresholds On/Off(V): 7/6.8; Mounting Technology: Surface Mount; Code_JEDEC: MS-004; ComponentLink1Description: Datasheet; ComponentLink1URL: http://www.ti.com/general/docs/lit/getliterature.tsp?genericPartNumber=UC1527A&fileType=pdf
footprint FK20_N (Leadless Chip Carrier, 20-Leads, Body 8.9x8.9mm, Pitch 1.27mm, IPC Medium Density)
footprint FK20_L (Leadless Chip Carrier, 20-Leads, Body 8.9x8.9mm, Pitch 1.27mm, IPC High Density)
footprint FK20_M (Leadless Chip Carrier, 20-Leads, Body 8.9x8.9mm, Pitch 1.27mm, IPC Low Density)
pins: 1 NC, 2 INV INPUT (in), 3 NI INPUT (in), 4 SYNC (in), 5 OSC OUTPUT, 6 NC, 7 CT, 8 RT, 9 DISCHARGE (oc), 10 SOFT START (in), 11 NC, 12 COMPENSATION (out), 13 SHUTDOWN (in), 14 OUTPUT A (out), 15 GROUND (power), 16 NC, 17 VC (power), 18 OUTPUT B (out), 19 +VIN (power), 20 VREF (out)

## UC1823AJ
designator U?
High Speed PWM Controller with Current Control, 100 % Duty Cycle, -55 to +125 degC, 16-pin CDIP (J); PartNumber: UC1823AJ; Manufacturer: Texas Instruments; Duty Cycle(Max)(%): 100; Eco-Plan: TBD; Frequency(Max)(kHz): 1000; Rating: Military; Regulated Outputs(#): 1; Topology: Boost, Buck, Flyback, Forward; UVLO Thresholds On/Off(V): 16/10; DatasheetVersion: SLUS334E; PackageVersion: revF, Mar-2003; PackageReference: J16; PackageDescription: 16-Pin, Ceramic Dual In-Line Package, Row Spacing 7.62 mm, Pitch 2.54 mm; Control Method: Current; SubFamily: PWM Controller; Mounting Technology: Through Hole; ComponentLink1Description: Datasheet; ComponentLink1URL: http://www.ti.com/general/docs/lit/getliterature.tsp?genericPartNumber=UC1823A&fileType=pdf
footprint J16 (DIP, 16-Leads, Row Spacing 7.62mm, Pitch 2.54mm, Body 21.3x6.9mm)
pins: 1 INV (in) "Inverting input to the error amplifier", 2 NI (in) "Non-inverting input to the error amplifier", 3 EAOUT (out) "Output of the error amplifier for compensation", 4 CLK/LEB (io) "Output of the internal oscillator", 5 RT "Timing resistor connection pin for oscillator frequency programming", 6 CT "Timing capacitor connection pin for oscillator frequency programming. The timing capacitor should be connected to the device ground using minimal trace length.", 7 RAMP (in) "Non-inverting input to the PWM comparator with 1.25-V internal input offset. In voltage mode operation, this serves as the input voltage feed-forward function by using the CT ramp. In peak current mode operation, this serves (See Datasheet)", 8 SS (in) "Soft-start input pin which also doubles as the maximum duty cycle clamp.", 9 ILIM (in) "Input to the current limit comparator", 10 GND (power) "Analog ground return pin", 11 OUTA (out) "High current totem pole output A of the on-chip drive stage.", 12 PGND (power) "Ground return pin for the output driver stage", 13 VC (power) "Power supply pin for the output stage. This pin should be bypassed with a 0.1-uF monolithic ceramic low ESL capacitor with minimal trace lengths", 14 OUTB (out) "High current totem pole output B of the on-chip drive stage", 15 VCC (power) "Power supply pin for the device. This pin should be bypassed with a 0.1-uF monolithic ceramic low ESL capacitor with minimal trace lengths", 16 VREF (out) "5.1-V reference. For stability, the reference should be bypassed with a 0.1-uF monolithic ceramic low ESL capacitor and minimal trace length to the ground plane."

## UC1823AJ883B
designator U?
High Speed PWM Controller with Current Control, 100 % Duty Cycle, -55 to +125 degC, 16-pin CDIP (J); PartNumber: UC1823AJ883B; Manufacturer: Texas Instruments; Duty Cycle(Max)(%): 100; Eco-Plan: TBD; Frequency(Max)(kHz): 1000; Rating: Military; Regulated Outputs(#): 1; Topology: Boost, Buck, Flyback, Forward; UVLO Thresholds On/Off(V): 16/10; DatasheetVersion: SLUS334E; PackageVersion: revF, Mar-2003; PackageReference: J16; PackageDescription: 16-Pin, Ceramic Dual In-Line Package, Row Spacing 7.62 mm, Pitch 2.54 mm; Control Method: Current; SubFamily: PWM Controller; Mounting Technology: Through Hole; ComponentLink1Description: Datasheet; ComponentLink1URL: http://www.ti.com/general/docs/lit/getliterature.tsp?genericPartNumber=UC1823A&fileType=pdf
footprint J16 (DIP, 16-Leads, Row Spacing 7.62mm, Pitch 2.54mm, Body 21.3x6.9mm)
pins: 1 INV (in) "Inverting input to the error amplifier", 2 NI (in) "Non-inverting input to the error amplifier", 3 EAOUT (out) "Output of the error amplifier for compensation", 4 CLK/LEB (io) "Output of the internal oscillator", 5 RT "Timing resistor connection pin for oscillator frequency programming", 6 CT "Timing capacitor connection pin for oscillator frequency programming. The timing capacitor should be connected to the device ground using minimal trace length.", 7 RAMP (in) "Non-inverting input to the PWM comparator with 1.25-V internal input offset. In voltage mode operation, this serves as the input voltage feed-forward function by using the CT ramp. In peak current mode operation, this serves (See Datasheet)", 8 SS (in) "Soft-start input pin which also doubles as the maximum duty cycle clamp.", 9 ILIM (in) "Input to the current limit comparator", 10 GND (power) "Analog ground return pin", 11 OUTA (out) "High current totem pole output A of the on-chip drive stage.", 12 PGND (power) "Ground return pin for the output driver stage", 13 VC (power) "Power supply pin for the output stage. This pin should be bypassed with a 0.1-uF monolithic ceramic low ESL capacitor with minimal trace lengths", 14 OUTB (out) "High current totem pole output B of the on-chip drive stage", 15 VCC (power) "Power supply pin for the device. This pin should be bypassed with a 0.1-uF monolithic ceramic low ESL capacitor with minimal trace lengths", 16 VREF (out) "5.1-V reference. For stability, the reference should be bypassed with a 0.1-uF monolithic ceramic low ESL capacitor and minimal trace length to the ground plane."

## UC1823AL
designator U?
High Speed PWM Controller with Current Control, 100 % Duty Cycle, -55 to +125 degC, 20-pin LCCC (FK); PartNumber: UC1823AL; Manufacturer: Texas Instruments; Duty Cycle(Max)(%): 100; Eco-Plan: TBD; Frequency(Max)(kHz): 1000; Rating: Military; Regulated Outputs(#): 1; Topology: Boost, Buck, Flyback, Forward; UVLO Thresholds On/Off(V): 16/10; DatasheetVersion: SLUS334E; PackageVersion: revD, Jan-2011; PackageReference: FK20; PackageDescription: 20-Pin Leadless Ceramic Chip Carrier, 1.27 mm Pitch; Control Method: Current; SubFamily: PWM Controller; Mounting Technology: Surface Mount; Code_JEDEC: MS-004; ComponentLink1Description: Datasheet; ComponentLink1URL: http://www.ti.com/general/docs/lit/getliterature.tsp?genericPartNumber=UC1823A&fileType=pdf
footprint FK20_N (Leadless Chip Carrier, 20-Leads, Body 8.9x8.9mm, Pitch 1.27mm, IPC Medium Density)
footprint FK20_L (Leadless Chip Carrier, 20-Leads, Body 8.9x8.9mm, Pitch 1.27mm, IPC High Density)
footprint FK20_M (Leadless Chip Carrier, 20-Leads, Body 8.9x8.9mm, Pitch 1.27mm, IPC Low Density)
pins: 1 NC "No connection", 2 INV (in) "Inverting input to the error amplifier", 3 NI (in) "Non-inverting input to the error amplifier", 4 EAOUT (out) "Output of the error amplifier for compensation", 5 CLK/LEB (io) "Output of the internal oscillator", 6 NC "No connection", 7 RT "Timing resistor connection pin for oscillator frequency programming", 8 CT "Timing capacitor connection pin for oscillator frequency programming. The timing capacitor should be connected to the device ground using minimal trace length.", 9 RAMP (in) "Non-inverting input to the PWM comparator with 1.25-V internal input offset. In voltage mode operation, this serves as the input voltage feed-forward function by using the CT ramp. In peak current mode operation, this serves (See Datasheet)", 10 SS (in) "Soft-start input pin which also doubles as the maximum duty cycle clamp.", 11 NC "No connection", 12 ILIM (in) "Input to the current limit comparator", 13 GND (power) "Analog ground return pin", 14 OUTA (out) "High current totem pole output A of the on-chip drive stage.", 15 PGND (power) "Ground return pin for the output driver stage", 16 NC "No connection", 17 VC (power) "Power supply pin for the output stage. This pin should be bypassed with a 0.1-uF monolithic ceramic low ESL capacitor with minimal trace lengths.", 18 OUTB (out) "High current totem pole output B of the on-chip drive stage.", 19 VCC (power) "Power supply pin for the device. This pin should be bypassed with a 0.1-uF monolithic ceramic low ESL capacitor with minimal trace lengths", 20 VREF (out) "5.1-V reference. For stability, the reference should be bypassed with a 0.1-uF monolithic ceramic low ESL capacitor and minimal trace length to the ground plane."

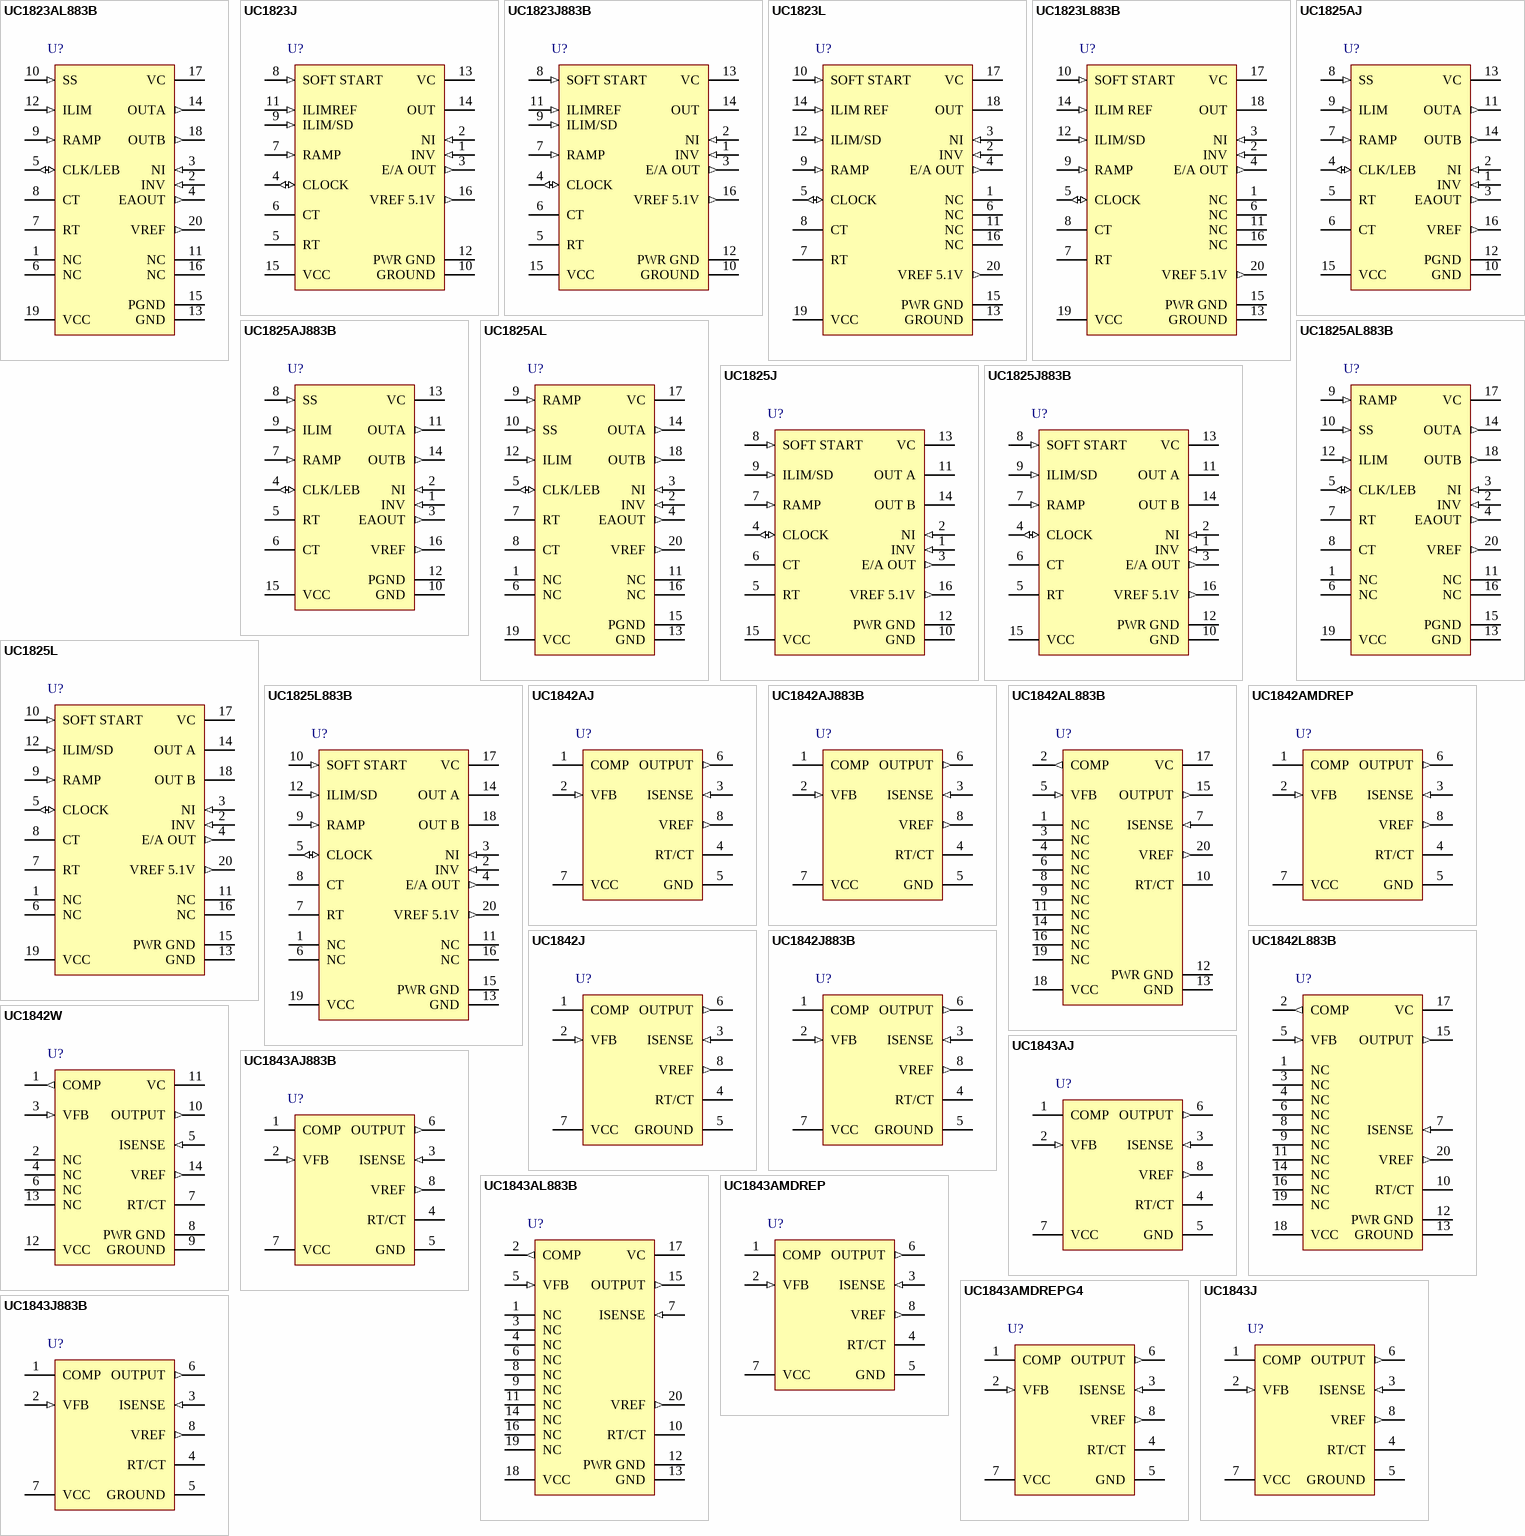
[diagram p14: symbols UC1823AL883B to UC1843J883B]

## UC1823AL883B
designator U?
High Speed PWM Controller with Current Control, 100 % Duty Cycle, -55 to +125 degC, 20-pin LCCC (FK); PartNumber: UC1823AL883B; Manufacturer: Texas Instruments; Duty Cycle(Max)(%): 100; Eco-Plan: TBD; Frequency(Max)(kHz): 1000; Rating: Military; Regulated Outputs(#): 1; Topology: Boost, Buck, Flyback, Forward; UVLO Thresholds On/Off(V): 16/10; DatasheetVersion: SLUS334E; PackageVersion: revD, Jan-2011; PackageReference: FK20; PackageDescription: 20-Pin Leadless Ceramic Chip Carrier, 1.27 mm Pitch; Control Method: Current; SubFamily: PWM Controller; Mounting Technology: Surface Mount; Code_JEDEC: MS-004; ComponentLink1Description: Datasheet; ComponentLink1URL: http://www.ti.com/general/docs/lit/getliterature.tsp?genericPartNumber=UC1823A&fileType=pdf
footprint FK20_N (Leadless Chip Carrier, 20-Leads, Body 8.9x8.9mm, Pitch 1.27mm, IPC Medium Density)
footprint FK20_L (Leadless Chip Carrier, 20-Leads, Body 8.9x8.9mm, Pitch 1.27mm, IPC High Density)
footprint FK20_M (Leadless Chip Carrier, 20-Leads, Body 8.9x8.9mm, Pitch 1.27mm, IPC Low Density)
pins: 1 NC "No connection", 2 INV (in) "Inverting input to the error amplifier", 3 NI (in) "Non-inverting input to the error amplifier", 4 EAOUT (out) "Output of the error amplifier for compensation", 5 CLK/LEB (io) "Output of the internal oscillator", 6 NC "No connection", 7 RT "Timing resistor connection pin for oscillator frequency programming", 8 CT "Timing capacitor connection pin for oscillator frequency programming. The timing capacitor should be connected to the device ground using minimal trace length.", 9 RAMP (in) "Non-inverting input to the PWM comparator with 1.25-V internal input offset. In voltage mode operation, this serves as the input voltage feed-forward function by using the CT ramp. In peak current mode operation, this serves (See Datasheet)", 10 SS (in) "Soft-start input pin which also doubles as the maximum duty cycle clamp.", 11 NC "No connection", 12 ILIM (in) "Input to the current limit comparator", 13 GND (power) "Analog ground return pin", 14 OUTA (out) "High current totem pole output A of the on-chip drive stage.", 15 PGND (power) "Ground return pin for the output driver stage", 16 NC "No connection", 17 VC (power) "Power supply pin for the output stage. This pin should be bypassed with a 0.1-uF monolithic ceramic low ESL capacitor with minimal trace lengths.", 18 OUTB (out) "High current totem pole output B of the on-chip drive stage.", 19 VCC (power) "Power supply pin for the device. This pin should be bypassed with a 0.1-uF monolithic ceramic low ESL capacitor with minimal trace lengths", 20 VREF (out) "5.1-V reference. For stability, the reference should be bypassed with a 0.1-uF monolithic ceramic low ESL capacitor and minimal trace length to the ground plane."

## UC1823J
designator U?
High Speed PWM Controller with Current Control, 100 % Duty Cycle, -55 to +125 degC, 16-pin CDIP (J); PartNumber: UC1823J; Manufacturer: Texas Instruments; Duty Cycle(Max)(%): 100; Eco-Plan: TBD; Frequency(Max)(kHz): 1000; Rating: Military; Regulated Outputs(#): 1; Topology: Boost, Buck, Flyback, Forward; UVLO Thresholds On/Off(V): 9.2/8.4; DatasheetVersion: SLUS219B; PackageVersion: revF, Mar-2003; PackageReference: J16; PackageDescription: 16-Pin, Ceramic Dual In-Line Package, Row Spacing 7.62 mm, Pitch 2.54 mm; Control Method: Current; SubFamily: PWM Controller; Mounting Technology: Through Hole; ComponentLink1Description: Datasheet; ComponentLink1URL: http://www.ti.com/general/docs/lit/getliterature.tsp?genericPartNumber=UC1823&fileType=pdf
footprint J16 (DIP, 16-Leads, Row Spacing 7.62mm, Pitch 2.54mm, Body 21.3x6.9mm)
pins: 1 INV (in), 2 NI (in), 3 E/A OUT (out), 4 CLOCK (io), 5 RT, 6 CT, 7 RAMP (in), 8 SOFT START (in), 9 ILIM/SD (in), 10 GROUND (power), 11 ILIMREF (in), 12 PWR GND (power), 13 VC (power), 14 OUT (hiz), 15 VCC (power), 16 VREF 5.1V (out)

## UC1823J883B
designator U?
High Speed PWM Controller with Current Control, 100 % Duty Cycle, -55 to +125 degC, 16-pin CDIP (J); PartNumber: UC1823J883B; Manufacturer: Texas Instruments; Duty Cycle(Max)(%): 100; Eco-Plan: TBD; Frequency(Max)(kHz): 1000; Rating: Military; Regulated Outputs(#): 1; Topology: Boost, Buck, Flyback, Forward; UVLO Thresholds On/Off(V): 9.2/8.4; DatasheetVersion: SLUS219B; PackageVersion: revF, Mar-2003; PackageReference: J16; PackageDescription: 16-Pin, Ceramic Dual In-Line Package, Row Spacing 7.62 mm, Pitch 2.54 mm; Control Method: Current; SubFamily: PWM Controller; Mounting Technology: Through Hole; ComponentLink1Description: Datasheet; ComponentLink1URL: http://www.ti.com/general/docs/lit/getliterature.tsp?genericPartNumber=UC1823&fileType=pdf
footprint J16 (DIP, 16-Leads, Row Spacing 7.62mm, Pitch 2.54mm, Body 21.3x6.9mm)
pins: 1 INV (in), 2 NI (in), 3 E/A OUT (out), 4 CLOCK (io), 5 RT, 6 CT, 7 RAMP (in), 8 SOFT START (in), 9 ILIM/SD (in), 10 GROUND (power), 11 ILIMREF (in), 12 PWR GND (power), 13 VC (power), 14 OUT (hiz), 15 VCC (power), 16 VREF 5.1V (out)

## UC1823L
designator U?
High Speed PWM Controller with Current Control, 100 % Duty Cycle, -55 to +125 degC, 20-pin LCCC (FK); PartNumber: UC1823L; Manufacturer: Texas Instruments; Duty Cycle(Max)(%): 100; Eco-Plan: TBD; Frequency(Max)(kHz): 1000; Rating: Military; Regulated Outputs(#): 1; Topology: Boost, Buck, Flyback, Forward; UVLO Thresholds On/Off(V): 9.2/8.4; DatasheetVersion: SLUS219B; PackageVersion: revD, Jan-2011; PackageReference: FK20; PackageDescription: 20-Pin Leadless Ceramic Chip Carrier, 1.27 mm Pitch; Control Method: Current; SubFamily: PWM Controller; Mounting Technology: Surface Mount; Code_JEDEC: MS-004; ComponentLink1Description: Datasheet; ComponentLink1URL: http://www.ti.com/general/docs/lit/getliterature.tsp?genericPartNumber=UC1823&fileType=pdf
footprint FK20_N (Leadless Chip Carrier, 20-Leads, Body 8.9x8.9mm, Pitch 1.27mm, IPC Medium Density)
footprint FK20_L (Leadless Chip Carrier, 20-Leads, Body 8.9x8.9mm, Pitch 1.27mm, IPC High Density)
footprint FK20_M (Leadless Chip Carrier, 20-Leads, Body 8.9x8.9mm, Pitch 1.27mm, IPC Low Density)
pins: 1 NC, 2 INV (in), 3 NI (in), 4 E/A OUT (out), 5 CLOCK (io), 6 NC, 7 RT, 8 CT, 9 RAMP (in), 10 SOFT START (in), 11 NC, 12 ILIM/SD (in), 13 GROUND (power), 14 ILIM REF (in), 15 PWR GND (power), 16 NC, 17 VC (power), 18 OUT (hiz), 19 VCC (power), 20 VREF 5.1V (out)

## UC1823L883B
designator U?
High Speed PWM Controller with Current Control, 100 % Duty Cycle, -55 to +125 degC, 20-pin LCCC (FK); PartNumber: UC1823L883B; Manufacturer: Texas Instruments; Duty Cycle(Max)(%): 100; Eco-Plan: TBD; Frequency(Max)(kHz): 1000; Rating: Military; Regulated Outputs(#): 1; Topology: Boost, Buck, Flyback, Forward; UVLO Thresholds On/Off(V): 9.2/8.4; DatasheetVersion: SLUS219B; PackageVersion: revD, Jan-2011; PackageReference: FK20; PackageDescription: 20-Pin Leadless Ceramic Chip Carrier, 1.27 mm Pitch; Control Method: Current; SubFamily: PWM Controller; Mounting Technology: Surface Mount; Code_JEDEC: MS-004; ComponentLink1Description: Datasheet; ComponentLink1URL: http://www.ti.com/general/docs/lit/getliterature.tsp?genericPartNumber=UC1823&fileType=pdf
footprint FK20_N (Leadless Chip Carrier, 20-Leads, Body 8.9x8.9mm, Pitch 1.27mm, IPC Medium Density)
footprint FK20_L (Leadless Chip Carrier, 20-Leads, Body 8.9x8.9mm, Pitch 1.27mm, IPC High Density)
footprint FK20_M (Leadless Chip Carrier, 20-Leads, Body 8.9x8.9mm, Pitch 1.27mm, IPC Low Density)
pins: 1 NC, 2 INV (in), 3 NI (in), 4 E/A OUT (out), 5 CLOCK (io), 6 NC, 7 RT, 8 CT, 9 RAMP (in), 10 SOFT START (in), 11 NC, 12 ILIM/SD (in), 13 GROUND (power), 14 ILIM REF (in), 15 PWR GND (power), 16 NC, 17 VC (power), 18 OUT (hiz), 19 VCC (power), 20 VREF 5.1V (out)

## UC1825AJ
designator U?
High-Speed PWM Controller with Current Control, 50 % Duty Cycle, -55 to +125 degC, 16-pin CDIP (J); PartNumber: UC1825AJ; Manufacturer: Texas Instruments; Duty Cycle(Max)(%): 50; Eco-Plan: TBD; Frequency(Max)(kHz): 1000; Rating: Military; Regulated Outputs(#): 2; Topology: Boost, Flyback, Forward, Full-Bridge, Half-Bridge, Push-Pull; UVLO Thresholds On/Off(V): 16/10; DatasheetVersion: SLUS334E; PackageVersion: revF, Mar-2003; PackageReference: J16; PackageDescription: 16-Pin, Ceramic Dual In-Line Package, Row Spacing 7.62 mm, Pitch 2.54 mm; Control Method: Current; SubFamily: PWM Controller; Mounting Technology: Through Hole; ComponentLink1Description: Datasheet; ComponentLink1URL: http://www.ti.com/general/docs/lit/getliterature.tsp?genericPartNumber=UC1825A&fileType=pdf
footprint J16 (DIP, 16-Leads, Row Spacing 7.62mm, Pitch 2.54mm, Body 21.3x6.9mm)
pins: 1 INV (in) "Inverting input to the error amplifier", 2 NI (in) "Non-inverting input to the error amplifier", 3 EAOUT (out) "Output of the error amplifier for compensation", 4 CLK/LEB (io) "Output of the internal oscillator", 5 RT "Timing resistor connection pin for oscillator frequency programming", 6 CT "Timing capacitor connection pin for oscillator frequency programming. The timing capacitor should be connected to the device ground using minimal trace length.", 7 RAMP (in) "Non-inverting input to the PWM comparator with 1.25-V internal input offset. In voltage mode operation, this serves as the input voltage feed-forward function by using the CT ramp. In peak current mode operation, this serves (See Datasheet)", 8 SS (in) "Soft-start input pin which also doubles as the maximum duty cycle clamp.", 9 ILIM (in) "Input to the current limit comparator", 10 GND (power) "Analog ground return pin", 11 OUTA (out) "High current totem pole output A of the on-chip drive stage.", 12 PGND (power) "Ground return pin for the output driver stage", 13 VC (power) "Power supply pin for the output stage. This pin should be bypassed with a 0.1-uF monolithic ceramic low ESL capacitor with minimal trace lengths.", 14 OUTB (out) "High current totem pole output B of the on-chip drive stage.", 15 VCC (power) "Power supply pin for the device. This pin should be bypassed with a 0.1-uF monolithic ceramic low ESL capacitor with minimal trace lengths", 16 VREF (out) "5.1-V reference. For stability, the reference should be bypassed with a 0.1-uF monolithic ceramic low ESL capacitor and minimal trace length to the ground plane."

## UC1825AJ883B
designator U?
High-Speed PWM Controller with Current Control, 50 % Duty Cycle, -55 to +125 degC, 16-pin CDIP (J); PartNumber: UC1825AJ883B; Manufacturer: Texas Instruments; Duty Cycle(Max)(%): 50; Eco-Plan: TBD; Frequency(Max)(kHz): 1000; Rating: Military; Regulated Outputs(#): 2; Topology: Boost, Flyback, Forward, Full-Bridge, Half-Bridge, Push-Pull; UVLO Thresholds On/Off(V): 16/10; DatasheetVersion: SLUS334E; PackageVersion: revF, Mar-2003; PackageReference: J16; PackageDescription: 16-Pin, Ceramic Dual In-Line Package, Row Spacing 7.62 mm, Pitch 2.54 mm; Control Method: Current; SubFamily: PWM Controller; Mounting Technology: Through Hole; ComponentLink1Description: Datasheet; ComponentLink1URL: http://www.ti.com/general/docs/lit/getliterature.tsp?genericPartNumber=UC1825A&fileType=pdf
footprint J16 (DIP, 16-Leads, Row Spacing 7.62mm, Pitch 2.54mm, Body 21.3x6.9mm)
pins: 1 INV (in) "Inverting input to the error amplifier", 2 NI (in) "Non-inverting input to the error amplifier", 3 EAOUT (out) "Output of the error amplifier for compensation", 4 CLK/LEB (io) "Output of the internal oscillator", 5 RT "Timing resistor connection pin for oscillator frequency programming", 6 CT "Timing capacitor connection pin for oscillator frequency programming. The timing capacitor should be connected to the device ground using minimal trace length.", 7 RAMP (in) "Non-inverting input to the PWM comparator with 1.25-V internal input offset. In voltage mode operation, this serves as the input voltage feed-forward function by using the CT ramp. In peak current mode operation, this serves (See Datasheet)", 8 SS (in) "Soft-start input pin which also doubles as the maximum duty cycle clamp.", 9 ILIM (in) "Input to the current limit comparator", 10 GND (power) "Analog ground return pin", 11 OUTA (out) "High current totem pole output A of the on-chip drive stage.", 12 PGND (power) "Ground return pin for the output driver stage", 13 VC (power) "Power supply pin for the output stage. This pin should be bypassed with a 0.1-uF monolithic ceramic low ESL capacitor with minimal trace lengths.", 14 OUTB (out) "High current totem pole output B of the on-chip drive stage.", 15 VCC (power) "Power supply pin for the device. This pin should be bypassed with a 0.1-uF monolithic ceramic low ESL capacitor with minimal trace lengths", 16 VREF (out) "5.1-V reference. For stability, the reference should be bypassed with a 0.1-uF monolithic ceramic low ESL capacitor and minimal trace length to the ground plane."